# Altium footprint library PCB2.PcbLib: 23 footprints (part 2 of 2)
Each footprint in its own frame and in the unit in brackets; x right, y up, seen from the top. Pads: shape width x height; smd on the part's side, far side on the other; paste and mask are expansions set on the pad; w line width, h text height; cw(c..) or ccw(c..) is an arc to the next point about the centre after c.
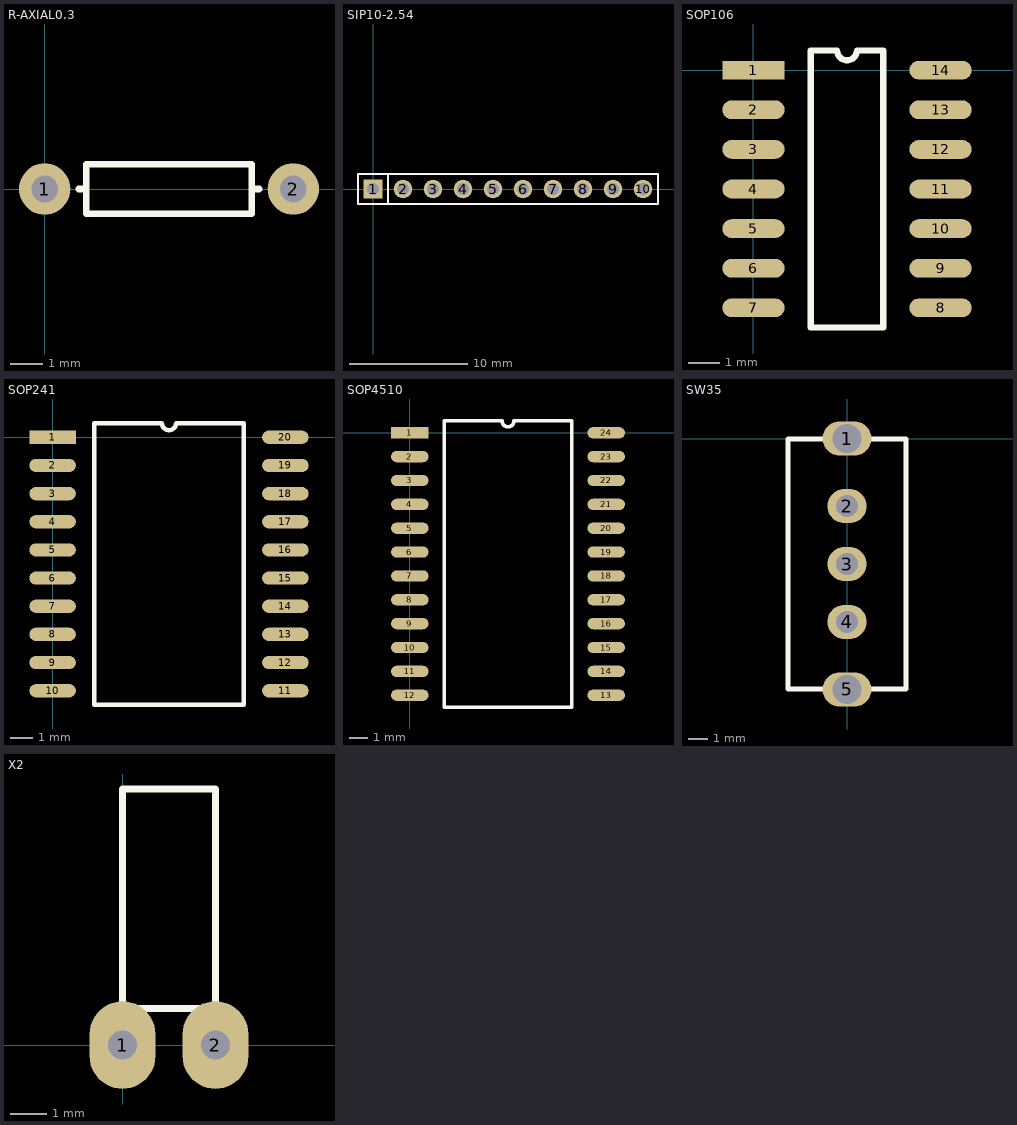
[diagram p1: the footprints below, top view; thin cyan lines are the x and y axes]

## R-AXIAL0.3 [mil]
pads (2):
  round 62 hole 32: 1(0,0) 2(300,0)
TopOverlay:
  lines w8: 41,0 50,0 ; 259,0 250,0 ; 250,0 250,30 50,30 50,-30 250,-30 250,0

## SIP10-2.54 [mil]
pads (10):
  rect 62x62 hole 40: 1(0,0)
  round 62 hole 40: 2(100,0) 3(200,0) 4(300,0) 5(400,0) 6(500,0) 7(600,0) 8(700,0) 9(800,0) 10(900,0)
TopOverlay:
  lines w8: 50,-50 50,50 ; -50,-50 -50,50 950,50 950,-50 -50,-50

## SOP106 [mm]
pads (14):
  rect 2x0.6 smd: 1(0,0)
  oval 2x0.6 smd: 2(0,-1.27) 3(0,-2.54) 4(0,-3.81) 5(0,-5.08) 6(0,-6.35) 7(0,-7.62) 8(6,-7.62) 9(6,-6.35) 10(6,-5.08) 11(6,-3.81) 12(6,-2.54) 13(6,-1.27) 14(6,0)
TopOverlay:
  lines w0.2: 1.835,-8.255 4.165,-8.255 4.165,0.635 3.317,0.635 cw(c3,0.635) 2.682,0.635 1.835,0.635 1.835,-8.255

## SOP241 [mm]
pads (20):
  rect 2.1x0.6 smd: 1(0,0)
  oval 2.1x0.6 smd: 2(0,-1.27) 3(0,-2.54) 4(0,-3.81) 5(0,-5.08) 6(0,-6.35) 7(0,-7.62) 8(0,-8.89) 9(0,-10.16) 10(0,-11.43) 11(10.5,-11.43) 12(10.5,-10.16) 13(10.5,-8.89) 14(10.5,-7.62) 15(10.5,-6.35) 16(10.5,-5.08) 17(10.5,-3.81) 18(10.5,-2.54) 19(10.5,-1.27) 20(10.5,0)
TopOverlay:
  lines w0.2: 1.885,-12.065 8.615,-12.065 8.615,0.635 5.567,0.635 cw(c5.25,0.635) 4.932,0.635 1.885,0.635 1.885,-12.065

## SOP4510 [mm]
pads (24):
  rect 2x0.6 smd: 1(0,0)
  oval 2x0.6 smd: 2(0,-1.27) 3(0,-2.54) 4(0,-3.81) 5(0,-5.08) 6(0,-6.35) 7(0,-7.62) 8(0,-8.89) 9(0,-10.16) 10(0,-11.43) 11(0,-12.7) 12(0,-13.97) 13(10.45,-13.97) 14(10.45,-12.7) 15(10.45,-11.43) 16(10.45,-10.16) 17(10.45,-8.89) 18(10.45,-7.62) 19(10.45,-6.35) 20(10.45,-5.08) 21(10.45,-3.81) 22(10.45,-2.54) 23(10.45,-1.27) 24(10.45,0)
TopOverlay:
  lines w0.2: 1.835,-14.605 1.835,0.635 4.907,0.635 ccw(c5.225,0.635) 5.542,0.635 8.615,0.635 8.615,-14.605 1.835,-14.605

## SW35 [mil]
pads (5):
  oval 100x70 hole 60: 1(0,0) 5(0,-511.81)
  oval 80x70 hole 45: 2(0,-137.8) 3(0,-255.91) 4(0,-374.02)
TopOverlay:
  lines w10: -120,-510.91 -120,-0.91 120,-0.91 120,-510.91 -120,-510.91

## X2 [mm]
pads (2):
  oval 1.8x2.4 hole 0.8: 1(0,0) 2(2.54,0)
TopOverlay:
  lines w0.2: 0,0 0,7 2.54,7 2.54,0 ; 0,1 2.54,1
BottomOverlay:
  lines w0.2: 0,1.524 0,2.54 0.508,2.54 ; 0.508,1.524 0.508,2.54 ; 0.508,3.556 0.508,2.54 ; 2.032,1.524 2.032,2.54 ; 2.032,3.556 2.032,2.54 ; 2.54,1.524 2.54,2.54 2.032,2.54 ; 1.016,1.524 1.524,1.524 1.524,3.556 1.016,3.556 1.016,1.524